# Altium integrated library Maxim Digital Potentiometers.IntLib: 1045 symbols (part 41 of 42)
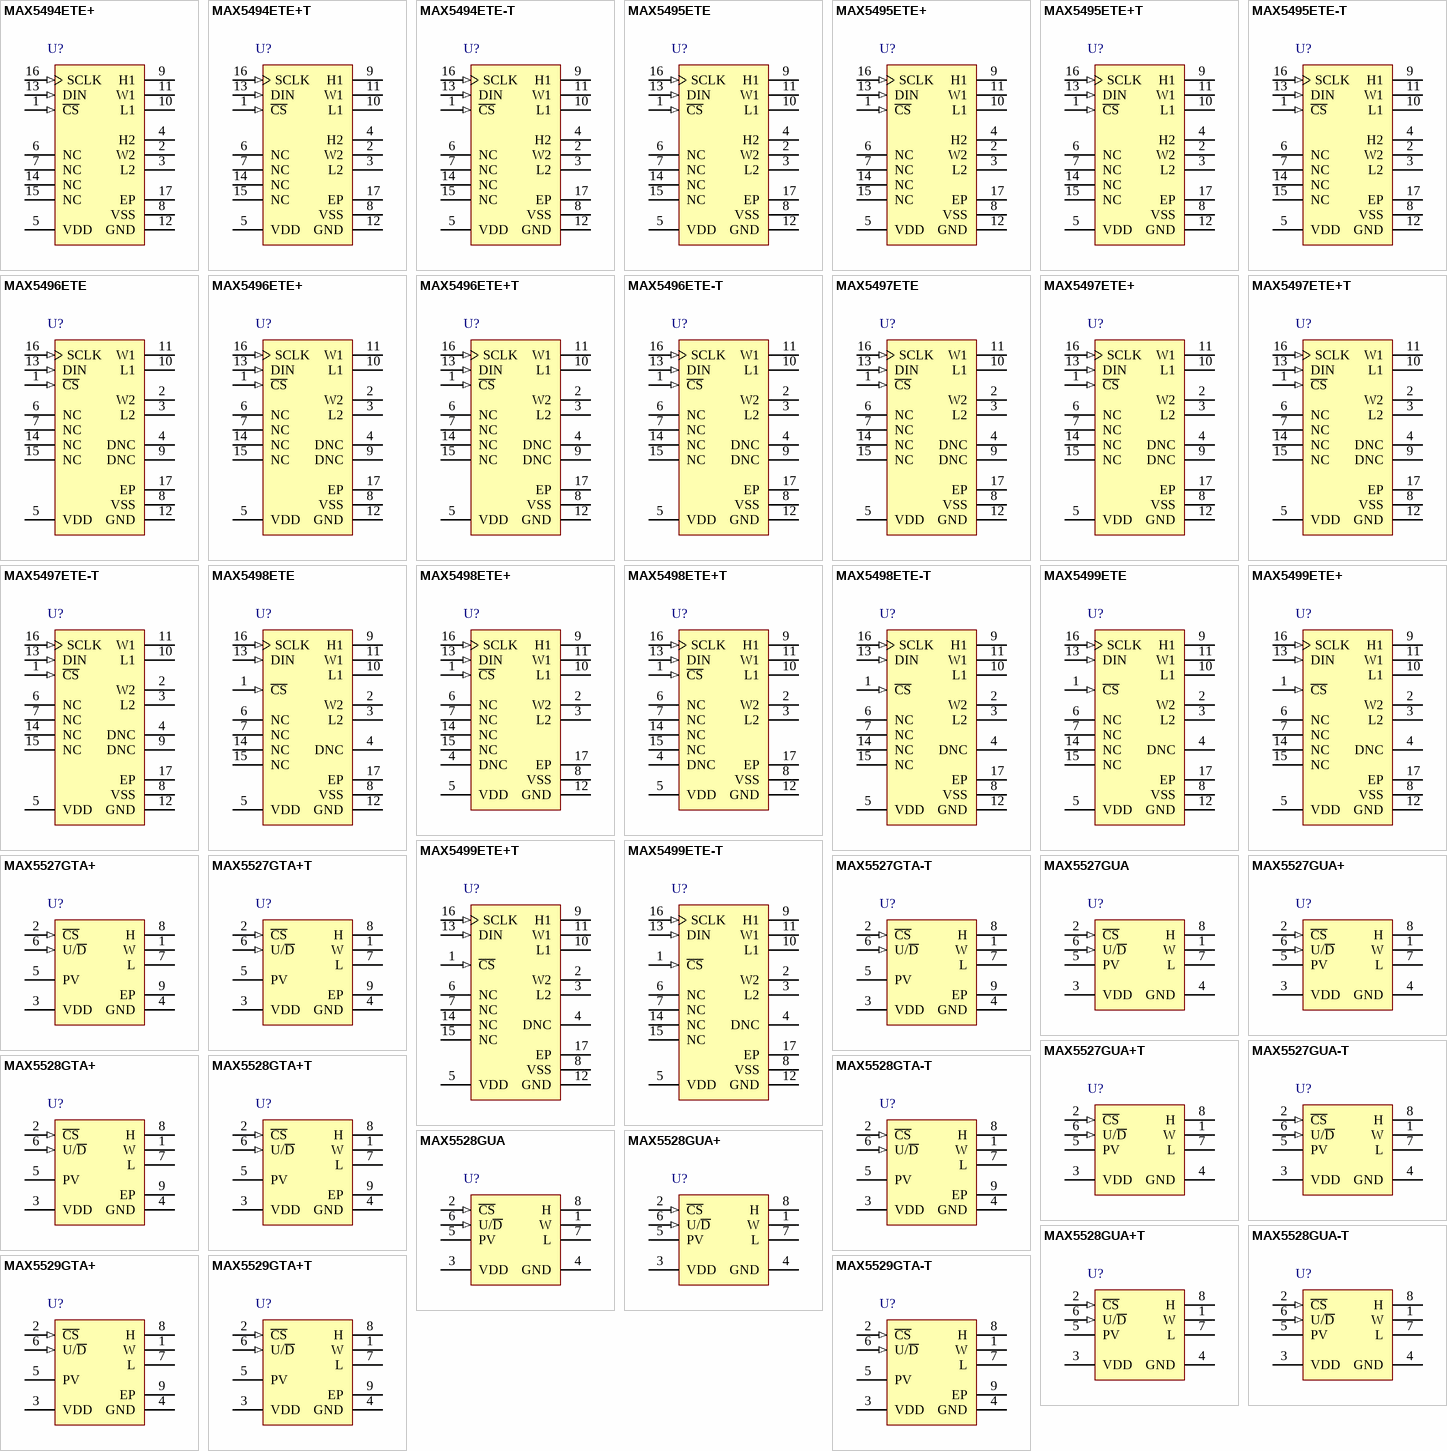
[diagram p69: symbols MAX5494ETE+ to MAX5529GTA-T]

## MAX5496ETE-T
designator U?
Dual 10k Digital Potentiometer (Voltage Divider) with 3-Wire Serial SPI Control Interface, Non-Volatile, Linear Taper, 1024 Steps, -40 to 85 degC, 16-pin TQFN (T1655+3), Tape and Reel; PartNumber: MAX5496ETE-T; DatasheetVersion: Rev. 2; PackageVersion: Rev. Q, 09/2011; PackageReference: T1655-3; PackageDescription: 16-Pin Thin Quad Flatpack, No Leads, Body 5 x 5 mm, Pitch 0.8 mm; Supplier 1: Mouser; Supplier Part Number 1: N/A; Applications: Fiber Communications, Power Supply Cal.; Control Interface: 3-Wire Serial SPI; Features: EEPROM Wiper Memory; Mounting Technology: Surface Mount; Code_JEDEC: MO220; ComponentLink1Description: Manufacturer URL; ComponentLink1URL: http://www.maximintegrated.com/; ComponentLink2Description: Datasheet; ComponentLink2URL: http://datasheets.maximintegrated.com/en/ds/MAX5494-MAX5499.pdf; ComponentLink3Description: Package Specification; ComponentLink3URL: http://pdfserv.maximintegrated.com/package_dwgs/21-0140.PDF
footprint MAXM-T1655-3_N (QFN, 16-Leads, Body 5x5mm, Pitch 0.8mm, Thermal Pad 3.1x3.1mm, IPC Medium Density)
footprint MAXM-T1655-3_L (QFN, 16-Leads, Body 5x5mm, Pitch 0.8mm, Thermal Pad 3.1x3.1mm, IPC High Density)
footprint MAXM-T1655-3_M (QFN, 16-Leads, Body 5x5mm, Pitch 0.8mm, Thermal Pad 3.1x3.1mm, IPC Low Density)
pins: 1 ~{CS} (in) "Active-Low Chip-Select Input. Drive C\S\ low to enable the serial interface. Drive C\S\ high to disable the serial interface and put the device in standby mode.", 2 W2 "Wiper Terminal 2", 3 L2 "Low Terminal 2", 4 DNC "Do Not Connect. Leave unconnected for proper operation.", 5 VDD (power) "Positive Power-Supply Input. 2.7V =< VDD =< 5.25V. Bypass with a 0.1uF capacitor from VDD to GND as close to the device as possible", 6 NC "No Connection. Not internally connected.", 7 NC "No Connection. Not internally connected.", 8 VSS (power) "Negative Power-Supply Input. Single-supply operation: VSS = GND = 0. Dual-supply operation: -2.5V =< VSS =< -0.2V (VSS can vary as long as (VDD - VSS) =< 5.25V). Bypass with a 0.1uF capacitor from VSS to GND as close to the (See Datasheet)", 9 DNC "Do Not Connect. Leave unconnected for proper operation.", 10 L1 "Low Terminal 1", 11 W1 "Wiper Terminal 1", 12 GND (power) "Ground", 13 DIN (in) "Serial-Data Input. The data at DIN synchronously loads into the serial shift register on each SCLK rising edge.", 14 NC "No Connection. Not internally connected.", 15 NC "No Connection. Not internally connected.", 16 SCLK (in) "Serial-Clock Input . SCLK clocks in the data when C\S\ is low.", 17 EP (power) "Exposed Pad. Externally connect EP to VSS to provide a low thermal resistance path from the IC junction to the PC board or leave unconnected."

## MAX5497ETE
designator U?
Dual 50k Digital Potentiometer (Voltage Divider) with 3-Wire Serial SPI Control Interface, Non-Volatile, Linear Taper, 1024 Steps, -40 to 85 degC, 16-pin TQFN (T1655+3); PartNumber: MAX5497ETE; DatasheetVersion: Rev. 2; PackageVersion: Rev. Q, 09/2011; PackageReference: T1655-3; PackageDescription: 16-Pin Thin Quad Flatpack, No Leads, Body 5 x 5 mm, Pitch 0.8 mm; Supplier 1: Mouser; Supplier Part Number 1: N/A; Applications: Fiber Communications, Power Supply Cal.; Control Interface: 3-Wire Serial SPI; Features: EEPROM Wiper Memory; Mounting Technology: Surface Mount; Code_JEDEC: MO220; ComponentLink1Description: Manufacturer URL; ComponentLink1URL: http://www.maximintegrated.com/; ComponentLink2Description: Datasheet; ComponentLink2URL: http://datasheets.maximintegrated.com/en/ds/MAX5494-MAX5499.pdf; ComponentLink3Description: Package Specification; ComponentLink3URL: http://pdfserv.maximintegrated.com/package_dwgs/21-0140.PDF
footprint MAXM-T1655-3_N (QFN, 16-Leads, Body 5x5mm, Pitch 0.8mm, Thermal Pad 3.1x3.1mm, IPC Medium Density)
footprint MAXM-T1655-3_L (QFN, 16-Leads, Body 5x5mm, Pitch 0.8mm, Thermal Pad 3.1x3.1mm, IPC High Density)
footprint MAXM-T1655-3_M (QFN, 16-Leads, Body 5x5mm, Pitch 0.8mm, Thermal Pad 3.1x3.1mm, IPC Low Density)
pins: 1 ~{CS} (in) "Active-Low Chip-Select Input. Drive C\S\ low to enable the serial interface. Drive C\S\ high to disable the serial interface and put the device in standby mode.", 2 W2 "Wiper Terminal 2", 3 L2 "Low Terminal 2", 4 DNC "Do Not Connect. Leave unconnected for proper operation.", 5 VDD (power) "Positive Power-Supply Input. 2.7V =< VDD =< 5.25V. Bypass with a 0.1uF capacitor from VDD to GND as close to the device as possible", 6 NC "No Connection. Not internally connected.", 7 NC "No Connection. Not internally connected.", 8 VSS (power) "Negative Power-Supply Input. Single-supply operation: VSS = GND = 0. Dual-supply operation: -2.5V =< VSS =< -0.2V (VSS can vary as long as (VDD - VSS) =< 5.25V). Bypass with a 0.1uF capacitor from VSS to GND as close to the (See Datasheet)", 9 DNC "Do Not Connect. Leave unconnected for proper operation.", 10 L1 "Low Terminal 1", 11 W1 "Wiper Terminal 1", 12 GND (power) "Ground", 13 DIN (in) "Serial-Data Input. The data at DIN synchronously loads into the serial shift register on each SCLK rising edge.", 14 NC "No Connection. Not internally connected.", 15 NC "No Connection. Not internally connected.", 16 SCLK (in) "Serial-Clock Input . SCLK clocks in the data when C\S\ is low.", 17 EP (power) "Exposed Pad. Externally connect EP to VSS to provide a low thermal resistance path from the IC junction to the PC board or leave unconnected."

## MAX5497ETE+
designator U?
Dual 50k Digital Potentiometer (Voltage Divider) with 3-Wire Serial SPI Control Interface, Non-Volatile, Linear Taper, 1024 Steps, -40 to 85 degC, 16-pin TQFN (T1655+3), Pb-Free; PartNumber: MAX5497ETE+; DatasheetVersion: Rev. 2; PackageVersion: Rev. Q, 09/2011; PackageReference: T1655+3; PackageDescription: 16-Pin Thin Quad Flatpack, No Leads, Body 5 x 5 mm, Pitch 0.8 mm; Supplier 1: Digi-Key; Supplier Part Number 1: MAX5497ETE+-ND; Supplier 2: Mouser; Supplier Part Number 2: 700-MAX5497ETE; Applications: Fiber Communications, Power Supply Cal.; Control Interface: 3-Wire Serial SPI; Features: EEPROM Wiper Memory; Mounting Technology: Surface Mount; Code_JEDEC: MO220; ComponentLink1Description: Manufacturer URL; ComponentLink1URL: http://www.maximintegrated.com/; ComponentLink2Description: Datasheet; ComponentLink2URL: http://datasheets.maximintegrated.com/en/ds/MAX5494-MAX5499.pdf; ComponentLink3Description: Package Specification; ComponentLink3URL: http://pdfserv.maximintegrated.com/package_dwgs/21-0140.PDF
footprint MAXM-T1655+3_N (QFN, 16-Leads, Body 5x5mm, Pitch 0.8mm, Thermal Pad 3.1x3.1mm, IPC Medium Density)
footprint MAXM-T1655+3_L (QFN, 16-Leads, Body 5x5mm, Pitch 0.8mm, Thermal Pad 3.1x3.1mm, IPC High Density)
footprint MAXM-T1655+3_M (QFN, 16-Leads, Body 5x5mm, Pitch 0.8mm, Thermal Pad 3.1x3.1mm, IPC Low Density)
pins: 1 ~{CS} (in) "Active-Low Chip-Select Input. Drive C\S\ low to enable the serial interface. Drive C\S\ high to disable the serial interface and put the device in standby mode.", 2 W2 "Wiper Terminal 2", 3 L2 "Low Terminal 2", 4 DNC "Do Not Connect. Leave unconnected for proper operation.", 5 VDD (power) "Positive Power-Supply Input. 2.7V =< VDD =< 5.25V. Bypass with a 0.1uF capacitor from VDD to GND as close to the device as possible", 6 NC "No Connection. Not internally connected.", 7 NC "No Connection. Not internally connected.", 8 VSS (power) "Negative Power-Supply Input. Single-supply operation: VSS = GND = 0. Dual-supply operation: -2.5V =< VSS =< -0.2V (VSS can vary as long as (VDD - VSS) =< 5.25V). Bypass with a 0.1uF capacitor from VSS to GND as close to the (See Datasheet)", 9 DNC "Do Not Connect. Leave unconnected for proper operation.", 10 L1 "Low Terminal 1", 11 W1 "Wiper Terminal 1", 12 GND (power) "Ground", 13 DIN (in) "Serial-Data Input. The data at DIN synchronously loads into the serial shift register on each SCLK rising edge.", 14 NC "No Connection. Not internally connected.", 15 NC "No Connection. Not internally connected.", 16 SCLK (in) "Serial-Clock Input . SCLK clocks in the data when C\S\ is low.", 17 EP (power) "Exposed Pad. Externally connect EP to VSS to provide a low thermal resistance path from the IC junction to the PC board or leave unconnected."

## MAX5497ETE+T
designator U?
Dual 50k Digital Potentiometer (Voltage Divider) with 3-Wire Serial SPI Control Interface, Non-Volatile, Linear Taper, 1024 Steps, -40 to 85 degC, 16-pin TQFN (T1655+3), Pb-Free, Tape and Reel; PartNumber: MAX5497ETE+T; DatasheetVersion: Rev. 2; PackageVersion: Rev. Q, 09/2011; PackageReference: T1655+3; PackageDescription: 16-Pin Thin Quad Flatpack, No Leads, Body 5 x 5 mm, Pitch 0.8 mm; Supplier 1: Digi-Key; Supplier Part Number 1: MAX5497ETE+T-ND; Supplier 2: Mouser; Supplier Part Number 2: 700-MAX5497ETET; Applications: Fiber Communications, Power Supply Cal.; Control Interface: 3-Wire Serial SPI; Features: EEPROM Wiper Memory; Mounting Technology: Surface Mount; Code_JEDEC: MO220; ComponentLink1Description: Manufacturer URL; ComponentLink1URL: http://www.maximintegrated.com/; ComponentLink2Description: Datasheet; ComponentLink2URL: http://datasheets.maximintegrated.com/en/ds/MAX5494-MAX5499.pdf; ComponentLink3Description: Package Specification; ComponentLink3URL: http://pdfserv.maximintegrated.com/package_dwgs/21-0140.PDF
footprint MAXM-T1655+3_N (QFN, 16-Leads, Body 5x5mm, Pitch 0.8mm, Thermal Pad 3.1x3.1mm, IPC Medium Density)
footprint MAXM-T1655+3_L (QFN, 16-Leads, Body 5x5mm, Pitch 0.8mm, Thermal Pad 3.1x3.1mm, IPC High Density)
footprint MAXM-T1655+3_M (QFN, 16-Leads, Body 5x5mm, Pitch 0.8mm, Thermal Pad 3.1x3.1mm, IPC Low Density)
pins: 1 ~{CS} (in) "Active-Low Chip-Select Input. Drive C\S\ low to enable the serial interface. Drive C\S\ high to disable the serial interface and put the device in standby mode.", 2 W2 "Wiper Terminal 2", 3 L2 "Low Terminal 2", 4 DNC "Do Not Connect. Leave unconnected for proper operation.", 5 VDD (power) "Positive Power-Supply Input. 2.7V =< VDD =< 5.25V. Bypass with a 0.1uF capacitor from VDD to GND as close to the device as possible", 6 NC "No Connection. Not internally connected.", 7 NC "No Connection. Not internally connected.", 8 VSS (power) "Negative Power-Supply Input. Single-supply operation: VSS = GND = 0. Dual-supply operation: -2.5V =< VSS =< -0.2V (VSS can vary as long as (VDD - VSS) =< 5.25V). Bypass with a 0.1uF capacitor from VSS to GND as close to the (See Datasheet)", 9 DNC "Do Not Connect. Leave unconnected for proper operation.", 10 L1 "Low Terminal 1", 11 W1 "Wiper Terminal 1", 12 GND (power) "Ground", 13 DIN (in) "Serial-Data Input. The data at DIN synchronously loads into the serial shift register on each SCLK rising edge.", 14 NC "No Connection. Not internally connected.", 15 NC "No Connection. Not internally connected.", 16 SCLK (in) "Serial-Clock Input . SCLK clocks in the data when C\S\ is low.", 17 EP (power) "Exposed Pad. Externally connect EP to VSS to provide a low thermal resistance path from the IC junction to the PC board or leave unconnected."

## MAX5497ETE-T
designator U?
Dual 50k Digital Potentiometer (Voltage Divider) with 3-Wire Serial SPI Control Interface, Non-Volatile, Linear Taper, 1024 Steps, -40 to 85 degC, 16-pin TQFN (T1655+3), Tape and Reel; PartNumber: MAX5497ETE-T; DatasheetVersion: Rev. 2; PackageVersion: Rev. Q, 09/2011; PackageReference: T1655-3; PackageDescription: 16-Pin Thin Quad Flatpack, No Leads, Body 5 x 5 mm, Pitch 0.8 mm; Supplier 1: Mouser; Supplier Part Number 1: N/A; Applications: Fiber Communications, Power Supply Cal.; Control Interface: 3-Wire Serial SPI; Features: EEPROM Wiper Memory; Mounting Technology: Surface Mount; Code_JEDEC: MO220; ComponentLink1Description: Manufacturer URL; ComponentLink1URL: http://www.maximintegrated.com/; ComponentLink2Description: Datasheet; ComponentLink2URL: http://datasheets.maximintegrated.com/en/ds/MAX5494-MAX5499.pdf; ComponentLink3Description: Package Specification; ComponentLink3URL: http://pdfserv.maximintegrated.com/package_dwgs/21-0140.PDF
footprint MAXM-T1655-3_N (QFN, 16-Leads, Body 5x5mm, Pitch 0.8mm, Thermal Pad 3.1x3.1mm, IPC Medium Density)
footprint MAXM-T1655-3_L (QFN, 16-Leads, Body 5x5mm, Pitch 0.8mm, Thermal Pad 3.1x3.1mm, IPC High Density)
footprint MAXM-T1655-3_M (QFN, 16-Leads, Body 5x5mm, Pitch 0.8mm, Thermal Pad 3.1x3.1mm, IPC Low Density)
pins: 1 ~{CS} (in) "Active-Low Chip-Select Input. Drive C\S\ low to enable the serial interface. Drive C\S\ high to disable the serial interface and put the device in standby mode.", 2 W2 "Wiper Terminal 2", 3 L2 "Low Terminal 2", 4 DNC "Do Not Connect. Leave unconnected for proper operation.", 5 VDD (power) "Positive Power-Supply Input. 2.7V =< VDD =< 5.25V. Bypass with a 0.1uF capacitor from VDD to GND as close to the device as possible", 6 NC "No Connection. Not internally connected.", 7 NC "No Connection. Not internally connected.", 8 VSS (power) "Negative Power-Supply Input. Single-supply operation: VSS = GND = 0. Dual-supply operation: -2.5V =< VSS =< -0.2V (VSS can vary as long as (VDD - VSS) =< 5.25V). Bypass with a 0.1uF capacitor from VSS to GND as close to the (See Datasheet)", 9 DNC "Do Not Connect. Leave unconnected for proper operation.", 10 L1 "Low Terminal 1", 11 W1 "Wiper Terminal 1", 12 GND (power) "Ground", 13 DIN (in) "Serial-Data Input. The data at DIN synchronously loads into the serial shift register on each SCLK rising edge.", 14 NC "No Connection. Not internally connected.", 15 NC "No Connection. Not internally connected.", 16 SCLK (in) "Serial-Clock Input . SCLK clocks in the data when C\S\ is low.", 17 EP (power) "Exposed Pad. Externally connect EP to VSS to provide a low thermal resistance path from the IC junction to the PC board or leave unconnected."

## MAX5498ETE
designator U?
Dual 10k Digital Potentiometer (Voltage Divider) with 3-Wire Serial SPI Control Interface, Non-Volatile, Linear Taper, 1024 Steps, -40 to 85 degC, 16-pin TQFN (T1655+3); PartNumber: MAX5498ETE; DatasheetVersion: Rev. 2; PackageVersion: Rev. Q, 09/2011; PackageReference: T1655-3; PackageDescription: 16-Pin Thin Quad Flatpack, No Leads, Body 5 x 5 mm, Pitch 0.8 mm; Supplier 1: Mouser; Supplier Part Number 1: N/A; Applications: Fiber Communications, Power Supply Cal.; Control Interface: 3-Wire Serial SPI; Features: EEPROM Wiper Memory; Mounting Technology: Surface Mount; Code_JEDEC: MO220; ComponentLink1Description: Manufacturer URL; ComponentLink1URL: http://www.maximintegrated.com/; ComponentLink2Description: Datasheet; ComponentLink2URL: http://datasheets.maximintegrated.com/en/ds/MAX5494-MAX5499.pdf; ComponentLink3Description: Package Specification; ComponentLink3URL: http://pdfserv.maximintegrated.com/package_dwgs/21-0140.PDF
footprint MAXM-T1655-3_N (QFN, 16-Leads, Body 5x5mm, Pitch 0.8mm, Thermal Pad 3.1x3.1mm, IPC Medium Density)
footprint MAXM-T1655-3_L (QFN, 16-Leads, Body 5x5mm, Pitch 0.8mm, Thermal Pad 3.1x3.1mm, IPC High Density)
footprint MAXM-T1655-3_M (QFN, 16-Leads, Body 5x5mm, Pitch 0.8mm, Thermal Pad 3.1x3.1mm, IPC Low Density)
pins: 1 ~{CS} (in) "Active-Low Chip-Select Input. Drive C\S\ low to enable the serial interface. Drive C\S\ high to disable the serial interface and put the device in standby mode.", 2 W2 "Wiper Terminal 2", 3 L2 "Low Terminal 2", 4 DNC "Do Not Connect. Leave unconnected for proper operation.", 5 VDD (power) "Positive Power-Supply Input. 2.7V =< VDD =< 5.25V. Bypass with a 0.1uF capacitor from VDD to GND as close to the device as possible", 6 NC "No Connection. Not internally connected.", 7 NC "No Connection. Not internally connected.", 8 VSS (power) "Negative Power-Supply Input. Single-supply operation: VSS = GND = 0. Dual-supply operation: -2.5V =< VSS =< -0.2V (VSS can vary as long as (VDD - VSS) =< 5.25V). Bypass with a 0.1uF capacitor from VSS to GND as close to the (See Datasheet)", 9 H1 "High Terminal 1", 10 L1 "Low Terminal 1", 11 W1 "Wiper Terminal 1", 12 GND (power) "Ground", 13 DIN (in) "Serial-Data Input. The data at DIN synchronously loads into the serial shift register on each SCLK rising edge.", 14 NC "No Connection. Not internally connected.", 15 NC "No Connection. Not internally connected.", 16 SCLK (in) "Serial-Clock Input . SCLK clocks in the data when C\S\ is low.", 17 EP (power) "Exposed Pad. Externally connect EP to VSS to provide a low thermal resistance path from the IC junction to the PC board or leave unconnected."

## MAX5498ETE+
designator U?
Dual 10k Digital Potentiometer (Voltage Divider) with 3-Wire Serial SPI Control Interface, Non-Volatile, Linear Taper, 1024 Steps, -40 to 85 degC, 16-pin TQFN (T1655+3), Pb-Free; PartNumber: MAX5498ETE+; DatasheetVersion: Rev. 2; PackageVersion: Rev. Q, 09/2011; PackageReference: T1655+3; PackageDescription: 16-Pin Thin Quad Flatpack, No Leads, Body 5 x 5 mm, Pitch 0.8 mm; Supplier 1: Digi-Key; Supplier Part Number 1: MAX5498ETE+-ND; Supplier 2: Mouser; Supplier Part Number 2: 700-MAX5498ETE; Applications: Fiber Communications, Power Supply Cal.; Control Interface: 3-Wire Serial SPI; Features: EEPROM Wiper Memory; Mounting Technology: Surface Mount; Code_JEDEC: MO220; ComponentLink1Description: Manufacturer URL; ComponentLink1URL: http://www.maximintegrated.com/; ComponentLink2Description: Datasheet; ComponentLink2URL: http://datasheets.maximintegrated.com/en/ds/MAX5494-MAX5499.pdf; ComponentLink3Description: Package Specification; ComponentLink3URL: http://pdfserv.maximintegrated.com/package_dwgs/21-0140.PDF
footprint MAXM-T1655+3_N (QFN, 16-Leads, Body 5x5mm, Pitch 0.8mm, Thermal Pad 3.1x3.1mm, IPC Medium Density)
footprint MAXM-T1655+3_L (QFN, 16-Leads, Body 5x5mm, Pitch 0.8mm, Thermal Pad 3.1x3.1mm, IPC High Density)
footprint MAXM-T1655+3_M (QFN, 16-Leads, Body 5x5mm, Pitch 0.8mm, Thermal Pad 3.1x3.1mm, IPC Low Density)
pins: 1 ~{CS} (in) "Active-Low Chip-Select Input. Drive C\S\ low to enable the serial interface. Drive C\S\ high to disable the serial interface and put the device in standby mode.", 2 W2 "Wiper Terminal 2", 3 L2 "Low Terminal 2", 4 DNC "Do Not Connect. Leave unconnected for proper operation.", 5 VDD (power) "Positive Power-Supply Input. 2.7V =< VDD =< 5.25V. Bypass with a 0.1uF capacitor from VDD to GND as close to the device as possible", 6 NC "No Connection. Not internally connected.", 7 NC "No Connection. Not internally connected.", 8 VSS (power) "Negative Power-Supply Input. Single-supply operation: VSS = GND = 0. Dual-supply operation: -2.5V =< VSS =< -0.2V (VSS can vary as long as (VDD - VSS) =< 5.25V). Bypass with a 0.1uF capacitor from VSS to GND as close to the (See Datasheet)", 9 H1 "High Terminal 1", 10 L1 "Low Terminal 1", 11 W1 "Wiper Terminal 1", 12 GND (power) "Ground", 13 DIN (in) "Serial-Data Input. The data at DIN synchronously loads into the serial shift register on each SCLK rising edge.", 14 NC "No Connection. Not internally connected.", 15 NC "No Connection. Not internally connected.", 16 SCLK (in) "Serial-Clock Input . SCLK clocks in the data when C\S\ is low.", 17 EP (power) "Exposed Pad. Externally connect EP to VSS to provide a low thermal resistance path from the IC junction to the PC board or leave unconnected."

## MAX5498ETE+T
designator U?
Dual 10k Digital Potentiometer (Voltage Divider) with 3-Wire Serial SPI Control Interface, Non-Volatile, Linear Taper, 1024 Steps, -40 to 85 degC, 16-pin TQFN (T1655+3), Pb-Free, Tape and Reel; PartNumber: MAX5498ETE+T; DatasheetVersion: Rev. 2; PackageVersion: Rev. Q, 09/2011; PackageReference: T1655+3; PackageDescription: 16-Pin Thin Quad Flatpack, No Leads, Body 5 x 5 mm, Pitch 0.8 mm; Supplier 1: Digi-Key; Supplier Part Number 1: MAX5498ETE+T-ND; Supplier 2: Mouser; Supplier Part Number 2: 700-MAX5498ETET; Applications: Fiber Communications, Power Supply Cal.; Control Interface: 3-Wire Serial SPI; Features: EEPROM Wiper Memory; Mounting Technology: Surface Mount; Code_JEDEC: MO220; ComponentLink1Description: Manufacturer URL; ComponentLink1URL: http://www.maximintegrated.com/; ComponentLink2Description: Datasheet; ComponentLink2URL: http://datasheets.maximintegrated.com/en/ds/MAX5494-MAX5499.pdf; ComponentLink3Description: Package Specification; ComponentLink3URL: http://pdfserv.maximintegrated.com/package_dwgs/21-0140.PDF
footprint MAXM-T1655+3_N (QFN, 16-Leads, Body 5x5mm, Pitch 0.8mm, Thermal Pad 3.1x3.1mm, IPC Medium Density)
footprint MAXM-T1655+3_L (QFN, 16-Leads, Body 5x5mm, Pitch 0.8mm, Thermal Pad 3.1x3.1mm, IPC High Density)
footprint MAXM-T1655+3_M (QFN, 16-Leads, Body 5x5mm, Pitch 0.8mm, Thermal Pad 3.1x3.1mm, IPC Low Density)
pins: 1 ~{CS} (in) "Active-Low Chip-Select Input. Drive C\S\ low to enable the serial interface. Drive C\S\ high to disable the serial interface and put the device in standby mode.", 2 W2 "Wiper Terminal 2", 3 L2 "Low Terminal 2", 4 DNC "Do Not Connect. Leave unconnected for proper operation.", 5 VDD (power) "Positive Power-Supply Input. 2.7V =< VDD =< 5.25V. Bypass with a 0.1uF capacitor from VDD to GND as close to the device as possible", 6 NC "No Connection. Not internally connected.", 7 NC "No Connection. Not internally connected.", 8 VSS (power) "Negative Power-Supply Input. Single-supply operation: VSS = GND = 0. Dual-supply operation: -2.5V =< VSS =< -0.2V (VSS can vary as long as (VDD - VSS) =< 5.25V). Bypass with a 0.1uF capacitor from VSS to GND as close to the (See Datasheet)", 9 H1 "High Terminal 1", 10 L1 "Low Terminal 1", 11 W1 "Wiper Terminal 1", 12 GND (power) "Ground", 13 DIN (in) "Serial-Data Input. The data at DIN synchronously loads into the serial shift register on each SCLK rising edge.", 14 NC "No Connection. Not internally connected.", 15 NC "No Connection. Not internally connected.", 16 SCLK (in) "Serial-Clock Input . SCLK clocks in the data when C\S\ is low.", 17 EP (power) "Exposed Pad. Externally connect EP to VSS to provide a low thermal resistance path from the IC junction to the PC board or leave unconnected."

## MAX5498ETE-T
designator U?
Dual 10k Digital Potentiometer (Voltage Divider) with 3-Wire Serial SPI Control Interface, Non-Volatile, Linear Taper, 1024 Steps, -40 to 85 degC, 16-pin TQFN (T1655+3), Tape and Reel; PartNumber: MAX5498ETE-T; DatasheetVersion: Rev. 2; PackageVersion: Rev. Q, 09/2011; PackageReference: T1655-3; PackageDescription: 16-Pin Thin Quad Flatpack, No Leads, Body 5 x 5 mm, Pitch 0.8 mm; Supplier 1: Mouser; Supplier Part Number 1: N/A; Applications: Fiber Communications, Power Supply Cal.; Control Interface: 3-Wire Serial SPI; Features: EEPROM Wiper Memory; Mounting Technology: Surface Mount; Code_JEDEC: MO220; ComponentLink1Description: Manufacturer URL; ComponentLink1URL: http://www.maximintegrated.com/; ComponentLink2Description: Datasheet; ComponentLink2URL: http://datasheets.maximintegrated.com/en/ds/MAX5494-MAX5499.pdf; ComponentLink3Description: Package Specification; ComponentLink3URL: http://pdfserv.maximintegrated.com/package_dwgs/21-0140.PDF
footprint MAXM-T1655-3_N (QFN, 16-Leads, Body 5x5mm, Pitch 0.8mm, Thermal Pad 3.1x3.1mm, IPC Medium Density)
footprint MAXM-T1655-3_L (QFN, 16-Leads, Body 5x5mm, Pitch 0.8mm, Thermal Pad 3.1x3.1mm, IPC High Density)
footprint MAXM-T1655-3_M (QFN, 16-Leads, Body 5x5mm, Pitch 0.8mm, Thermal Pad 3.1x3.1mm, IPC Low Density)
pins: 1 ~{CS} (in) "Active-Low Chip-Select Input. Drive C\S\ low to enable the serial interface. Drive C\S\ high to disable the serial interface and put the device in standby mode.", 2 W2 "Wiper Terminal 2", 3 L2 "Low Terminal 2", 4 DNC "Do Not Connect. Leave unconnected for proper operation.", 5 VDD (power) "Positive Power-Supply Input. 2.7V =< VDD =< 5.25V. Bypass with a 0.1uF capacitor from VDD to GND as close to the device as possible", 6 NC "No Connection. Not internally connected.", 7 NC "No Connection. Not internally connected.", 8 VSS (power) "Negative Power-Supply Input. Single-supply operation: VSS = GND = 0. Dual-supply operation: -2.5V =< VSS =< -0.2V (VSS can vary as long as (VDD - VSS) =< 5.25V). Bypass with a 0.1uF capacitor from VSS to GND as close to the (See Datasheet)", 9 H1 "High Terminal 1", 10 L1 "Low Terminal 1", 11 W1 "Wiper Terminal 1", 12 GND (power) "Ground", 13 DIN (in) "Serial-Data Input. The data at DIN synchronously loads into the serial shift register on each SCLK rising edge.", 14 NC "No Connection. Not internally connected.", 15 NC "No Connection. Not internally connected.", 16 SCLK (in) "Serial-Clock Input . SCLK clocks in the data when C\S\ is low.", 17 EP (power) "Exposed Pad. Externally connect EP to VSS to provide a low thermal resistance path from the IC junction to the PC board or leave unconnected."

## MAX5499ETE
designator U?
Dual 50k Digital Potentiometer (Voltage Divider) with 3-Wire Serial SPI Control Interface, Non-Volatile, Linear Taper, 1024 Steps, -40 to 85 degC, 16-pin TQFN (T1655+3); PartNumber: MAX5499ETE; DatasheetVersion: Rev. 2; PackageVersion: Rev. Q, 09/2011; PackageReference: T1655-3; PackageDescription: 16-Pin Thin Quad Flatpack, No Leads, Body 5 x 5 mm, Pitch 0.8 mm; Supplier 1: Mouser; Supplier Part Number 1: N/A; Applications: Fiber Communications, Power Supply Cal.; Control Interface: 3-Wire Serial SPI; Features: EEPROM Wiper Memory; Mounting Technology: Surface Mount; Code_JEDEC: MO220; ComponentLink1Description: Manufacturer URL; ComponentLink1URL: http://www.maximintegrated.com/; ComponentLink2Description: Datasheet; ComponentLink2URL: http://datasheets.maximintegrated.com/en/ds/MAX5494-MAX5499.pdf; ComponentLink3Description: Package Specification; ComponentLink3URL: http://pdfserv.maximintegrated.com/package_dwgs/21-0140.PDF
footprint MAXM-T1655-3_N (QFN, 16-Leads, Body 5x5mm, Pitch 0.8mm, Thermal Pad 3.1x3.1mm, IPC Medium Density)
footprint MAXM-T1655-3_L (QFN, 16-Leads, Body 5x5mm, Pitch 0.8mm, Thermal Pad 3.1x3.1mm, IPC High Density)
footprint MAXM-T1655-3_M (QFN, 16-Leads, Body 5x5mm, Pitch 0.8mm, Thermal Pad 3.1x3.1mm, IPC Low Density)
pins: 1 ~{CS} (in) "Active-Low Chip-Select Input. Drive C\S\ low to enable the serial interface. Drive C\S\ high to disable the serial interface and put the device in standby mode.", 2 W2 "Wiper Terminal 2", 3 L2 "Low Terminal 2", 4 DNC "Do Not Connect. Leave unconnected for proper operation.", 5 VDD (power) "Positive Power-Supply Input. 2.7V =< VDD =< 5.25V. Bypass with a 0.1uF capacitor from VDD to GND as close to the device as possible", 6 NC "No Connection. Not internally connected.", 7 NC "No Connection. Not internally connected.", 8 VSS (power) "Negative Power-Supply Input. Single-supply operation: VSS = GND = 0. Dual-supply operation: -2.5V =< VSS =< -0.2V (VSS can vary as long as (VDD - VSS) =< 5.25V). Bypass with a 0.1uF capacitor from VSS to GND as close to the (See Datasheet)", 9 H1 "High Terminal 1", 10 L1 "Low Terminal 1", 11 W1 "Wiper Terminal 1", 12 GND (power) "Ground", 13 DIN (in) "Serial-Data Input. The data at DIN synchronously loads into the serial shift register on each SCLK rising edge.", 14 NC "No Connection. Not internally connected.", 15 NC "No Connection. Not internally connected.", 16 SCLK (in) "Serial-Clock Input . SCLK clocks in the data when C\S\ is low.", 17 EP (power) "Exposed Pad. Externally connect EP to VSS to provide a low thermal resistance path from the IC junction to the PC board or leave unconnected."

## MAX5499ETE+
designator U?
Dual 50k Digital Potentiometer (Voltage Divider) with 3-Wire Serial SPI Control Interface, Non-Volatile, Linear Taper, 1024 Steps, -40 to 85 degC, 16-pin TQFN (T1655+3), Pb-Free; PartNumber: MAX5499ETE+; DatasheetVersion: Rev. 2; PackageVersion: Rev. Q, 09/2011; PackageReference: T1655+3; PackageDescription: 16-Pin Thin Quad Flatpack, No Leads, Body 5 x 5 mm, Pitch 0.8 mm; Supplier 1: Digi-Key; Supplier Part Number 1: MAX5499ETE+-ND; Supplier 2: Mouser; Supplier Part Number 2: 700-MAX5499ETE; Applications: Fiber Communications, Power Supply Cal.; Control Interface: 3-Wire Serial SPI; Features: EEPROM Wiper Memory; Mounting Technology: Surface Mount; Code_JEDEC: MO220; ComponentLink1Description: Manufacturer URL; ComponentLink1URL: http://www.maximintegrated.com/; ComponentLink2Description: Datasheet; ComponentLink2URL: http://datasheets.maximintegrated.com/en/ds/MAX5494-MAX5499.pdf; ComponentLink3Description: Package Specification; ComponentLink3URL: http://pdfserv.maximintegrated.com/package_dwgs/21-0140.PDF
footprint MAXM-T1655+3_N (QFN, 16-Leads, Body 5x5mm, Pitch 0.8mm, Thermal Pad 3.1x3.1mm, IPC Medium Density)
footprint MAXM-T1655+3_L (QFN, 16-Leads, Body 5x5mm, Pitch 0.8mm, Thermal Pad 3.1x3.1mm, IPC High Density)
footprint MAXM-T1655+3_M (QFN, 16-Leads, Body 5x5mm, Pitch 0.8mm, Thermal Pad 3.1x3.1mm, IPC Low Density)
pins: 1 ~{CS} (in) "Active-Low Chip-Select Input. Drive C\S\ low to enable the serial interface. Drive C\S\ high to disable the serial interface and put the device in standby mode.", 2 W2 "Wiper Terminal 2", 3 L2 "Low Terminal 2", 4 DNC "Do Not Connect. Leave unconnected for proper operation.", 5 VDD (power) "Positive Power-Supply Input. 2.7V =< VDD =< 5.25V. Bypass with a 0.1uF capacitor from VDD to GND as close to the device as possible", 6 NC "No Connection. Not internally connected.", 7 NC "No Connection. Not internally connected.", 8 VSS (power) "Negative Power-Supply Input. Single-supply operation: VSS = GND = 0. Dual-supply operation: -2.5V =< VSS =< -0.2V (VSS can vary as long as (VDD - VSS) =< 5.25V). Bypass with a 0.1uF capacitor from VSS to GND as close to the (See Datasheet)", 9 H1 "High Terminal 1", 10 L1 "Low Terminal 1", 11 W1 "Wiper Terminal 1", 12 GND (power) "Ground", 13 DIN (in) "Serial-Data Input. The data at DIN synchronously loads into the serial shift register on each SCLK rising edge.", 14 NC "No Connection. Not internally connected.", 15 NC "No Connection. Not internally connected.", 16 SCLK (in) "Serial-Clock Input . SCLK clocks in the data when C\S\ is low.", 17 EP (power) "Exposed Pad. Externally connect EP to VSS to provide a low thermal resistance path from the IC junction to the PC board or leave unconnected."

## MAX5499ETE+T
designator U?
Dual 50k Digital Potentiometer (Voltage Divider) with 3-Wire Serial SPI Control Interface, Non-Volatile, Linear Taper, 1024 Steps, -40 to 85 degC, 16-pin TQFN (T1655+3), Pb-Free, Tape and Reel; PartNumber: MAX5499ETE+T; DatasheetVersion: Rev. 2; PackageVersion: Rev. Q, 09/2011; PackageReference: T1655+3; PackageDescription: 16-Pin Thin Quad Flatpack, No Leads, Body 5 x 5 mm, Pitch 0.8 mm; Supplier 1: Digi-Key; Supplier Part Number 1: MAX5499ETE+T-ND; Supplier 2: Mouser; Supplier Part Number 2: 700-MAX5499ETET; Applications: Fiber Communications, Power Supply Cal.; Control Interface: 3-Wire Serial SPI; Features: EEPROM Wiper Memory; Mounting Technology: Surface Mount; Code_JEDEC: MO220; ComponentLink1Description: Manufacturer URL; ComponentLink1URL: http://www.maximintegrated.com/; ComponentLink2Description: Datasheet; ComponentLink2URL: http://datasheets.maximintegrated.com/en/ds/MAX5494-MAX5499.pdf; ComponentLink3Description: Package Specification; ComponentLink3URL: http://pdfserv.maximintegrated.com/package_dwgs/21-0140.PDF
footprint MAXM-T1655+3_N (QFN, 16-Leads, Body 5x5mm, Pitch 0.8mm, Thermal Pad 3.1x3.1mm, IPC Medium Density)
footprint MAXM-T1655+3_L (QFN, 16-Leads, Body 5x5mm, Pitch 0.8mm, Thermal Pad 3.1x3.1mm, IPC High Density)
footprint MAXM-T1655+3_M (QFN, 16-Leads, Body 5x5mm, Pitch 0.8mm, Thermal Pad 3.1x3.1mm, IPC Low Density)
pins: 1 ~{CS} (in) "Active-Low Chip-Select Input. Drive C\S\ low to enable the serial interface. Drive C\S\ high to disable the serial interface and put the device in standby mode.", 2 W2 "Wiper Terminal 2", 3 L2 "Low Terminal 2", 4 DNC "Do Not Connect. Leave unconnected for proper operation.", 5 VDD (power) "Positive Power-Supply Input. 2.7V =< VDD =< 5.25V. Bypass with a 0.1uF capacitor from VDD to GND as close to the device as possible", 6 NC "No Connection. Not internally connected.", 7 NC "No Connection. Not internally connected.", 8 VSS (power) "Negative Power-Supply Input. Single-supply operation: VSS = GND = 0. Dual-supply operation: -2.5V =< VSS =< -0.2V (VSS can vary as long as (VDD - VSS) =< 5.25V). Bypass with a 0.1uF capacitor from VSS to GND as close to the (See Datasheet)", 9 H1 "High Terminal 1", 10 L1 "Low Terminal 1", 11 W1 "Wiper Terminal 1", 12 GND (power) "Ground", 13 DIN (in) "Serial-Data Input. The data at DIN synchronously loads into the serial shift register on each SCLK rising edge.", 14 NC "No Connection. Not internally connected.", 15 NC "No Connection. Not internally connected.", 16 SCLK (in) "Serial-Clock Input . SCLK clocks in the data when C\S\ is low.", 17 EP (power) "Exposed Pad. Externally connect EP to VSS to provide a low thermal resistance path from the IC junction to the PC board or leave unconnected."

## MAX5499ETE-T
designator U?
Dual 50k Digital Potentiometer (Voltage Divider) with 3-Wire Serial SPI Control Interface, Non-Volatile, Linear Taper, 1024 Steps, -40 to 85 degC, 16-pin TQFN (T1655+3), Tape and Reel; PartNumber: MAX5499ETE-T; DatasheetVersion: Rev. 2; PackageVersion: Rev. Q, 09/2011; PackageReference: T1655-3; PackageDescription: 16-Pin Thin Quad Flatpack, No Leads, Body 5 x 5 mm, Pitch 0.8 mm; Supplier 1: Mouser; Supplier Part Number 1: N/A; Applications: Fiber Communications, Power Supply Cal.; Control Interface: 3-Wire Serial SPI; Features: EEPROM Wiper Memory; Mounting Technology: Surface Mount; Code_JEDEC: MO220; ComponentLink1Description: Manufacturer URL; ComponentLink1URL: http://www.maximintegrated.com/; ComponentLink2Description: Datasheet; ComponentLink2URL: http://datasheets.maximintegrated.com/en/ds/MAX5494-MAX5499.pdf; ComponentLink3Description: Package Specification; ComponentLink3URL: http://pdfserv.maximintegrated.com/package_dwgs/21-0140.PDF
footprint MAXM-T1655-3_N (QFN, 16-Leads, Body 5x5mm, Pitch 0.8mm, Thermal Pad 3.1x3.1mm, IPC Medium Density)
footprint MAXM-T1655-3_L (QFN, 16-Leads, Body 5x5mm, Pitch 0.8mm, Thermal Pad 3.1x3.1mm, IPC High Density)
footprint MAXM-T1655-3_M (QFN, 16-Leads, Body 5x5mm, Pitch 0.8mm, Thermal Pad 3.1x3.1mm, IPC Low Density)
pins: 1 ~{CS} (in) "Active-Low Chip-Select Input. Drive C\S\ low to enable the serial interface. Drive C\S\ high to disable the serial interface and put the device in standby mode.", 2 W2 "Wiper Terminal 2", 3 L2 "Low Terminal 2", 4 DNC "Do Not Connect. Leave unconnected for proper operation.", 5 VDD (power) "Positive Power-Supply Input. 2.7V =< VDD =< 5.25V. Bypass with a 0.1uF capacitor from VDD to GND as close to the device as possible", 6 NC "No Connection. Not internally connected.", 7 NC "No Connection. Not internally connected.", 8 VSS (power) "Negative Power-Supply Input. Single-supply operation: VSS = GND = 0. Dual-supply operation: -2.5V =< VSS =< -0.2V (VSS can vary as long as (VDD - VSS) =< 5.25V). Bypass with a 0.1uF capacitor from VSS to GND as close to the (See Datasheet)", 9 H1 "High Terminal 1", 10 L1 "Low Terminal 1", 11 W1 "Wiper Terminal 1", 12 GND (power) "Ground", 13 DIN (in) "Serial-Data Input. The data at DIN synchronously loads into the serial shift register on each SCLK rising edge.", 14 NC "No Connection. Not internally connected.", 15 NC "No Connection. Not internally connected.", 16 SCLK (in) "Serial-Clock Input . SCLK clocks in the data when C\S\ is low.", 17 EP (power) "Exposed Pad. Externally connect EP to VSS to provide a low thermal resistance path from the IC junction to the PC board or leave unconnected."

## MAX5527GTA+
designator U?
100k Digital Potentiometer with Up/Down Control Interface, Non-Volatile OTP, Linear Taper, 64 Steps, -40 to 105 degC, 8-pin TDFN-EP (T833+2), Pb-Free; PartNumber: MAX5527GTA+; DatasheetVersion: Rev. 1; PackageVersion: Rev. J, 08/2009; PackageReference: T833+2; PackageDescription: 8-Pin Plastic Very Very Thin Dual Flatpack No Leads, Exposed Pad (T833+2); Supplier 1: Mouser; Supplier Part Number 1: N/A; Control Interface: Up/Down; Features: One Time Programmable; Mounting Technology: Surface Mount; Code_JEDEC: MO229; ComponentLink1Description: Manufacturer URL; ComponentLink1URL: http://www.maximintegrated.com/; ComponentLink2Description: Datasheet; ComponentLink2URL: http://datasheets.maximintegrated.com/en/ds/MAX5527-MAX5529.pdf; ComponentLink3Description: Package Specification; ComponentLink3URL: http://pdfserv.maximintegrated.com/package_dwgs/21-0137.PDF
footprint MAXM-T833+2_V (SON, 8-Leads, Body 3x3 mm, Pitch 0.65mm, Thermal Pad 2.3x1.5mm)
pins: 1 W "Wiper Connection", 2 ~{CS} (in) "Chip-Select Input. A high-to-low C\S\ transition determines the increment/decrement mode. Increment if U/D\ is high, or decrement if U/D\ is low. C\S\ is also used for one-time programming. See the PV One- Time Programming (See Datasheet)", 3 VDD (power) "Supply Voltage. Bypass with a 0.1uF capacitor to GND.", 4 GND (power) "Ground", 5 PV "One-Time Programming Voltage. Connect PV to an 11V supply at the time the device is programmed/locked, and bypass with a 22uF capacitor to GND. For normal operation, connect to GND or leave floating.", 6 U/~{D} (in) "Up/Down Control Input. When C\S\ is low, a low-to-high transition at U/D\ increments or decrements the wiper position. See the Digital Interface Operation section.", 7 L "Resistor Low Terminal", 8 H "Resistor High Terminal", 9 EP (power) "Exposed Pad (TDFN Only). Internally connected to GND. Connect to a large ground plane to maximize thermal dissipation."

## MAX5527GTA+T
designator U?
100k Digital Potentiometer with Up/Down Control Interface, Non-Volatile OTP, Linear Taper, 64 Steps, -40 to 105 degC, 8-pin TDFN-EP (T833+2), Pb-Free, Tape and Reel; PartNumber: MAX5527GTA+T; DatasheetVersion: Rev. 1; PackageVersion: Rev. J, 08/2009; PackageReference: T833+2; PackageDescription: 8-Pin Plastic Very Very Thin Dual Flatpack No Leads, Exposed Pad (T833+2); Supplier 1: Digi-Key; Supplier Part Number 1: MAX5527GTA+T-ND; Supplier 2: Mouser; Supplier Part Number 2: 700-MAX5527GTAT; Control Interface: Up/Down; Features: One Time Programmable; Mounting Technology: Surface Mount; Code_JEDEC: MO229; ComponentLink1Description: Manufacturer URL; ComponentLink1URL: http://www.maximintegrated.com/; ComponentLink2Description: Datasheet; ComponentLink2URL: http://datasheets.maximintegrated.com/en/ds/MAX5527-MAX5529.pdf; ComponentLink3Description: Package Specification; ComponentLink3URL: http://pdfserv.maximintegrated.com/package_dwgs/21-0137.PDF
footprint MAXM-T833+2_V (SON, 8-Leads, Body 3x3 mm, Pitch 0.65mm, Thermal Pad 2.3x1.5mm)
pins: 1 W "Wiper Connection", 2 ~{CS} (in) "Chip-Select Input. A high-to-low C\S\ transition determines the increment/decrement mode. Increment if U/D\ is high, or decrement if U/D\ is low. C\S\ is also used for one-time programming. See the PV One- Time Programming (See Datasheet)", 3 VDD (power) "Supply Voltage. Bypass with a 0.1uF capacitor to GND.", 4 GND (power) "Ground", 5 PV "One-Time Programming Voltage. Connect PV to an 11V supply at the time the device is programmed/locked, and bypass with a 22uF capacitor to GND. For normal operation, connect to GND or leave floating.", 6 U/~{D} (in) "Up/Down Control Input. When C\S\ is low, a low-to-high transition at U/D\ increments or decrements the wiper position. See the Digital Interface Operation section.", 7 L "Resistor Low Terminal", 8 H "Resistor High Terminal", 9 EP (power) "Exposed Pad (TDFN Only). Internally connected to GND. Connect to a large ground plane to maximize thermal dissipation."

## MAX5527GTA-T
designator U?
100k Digital Potentiometer with Up/Down Control Interface, Non-Volatile OTP, Linear Taper, 64 Steps, -40 to 105 degC, 8-pin TDFN-EP (T833-2), Tape and Reel; PartNumber: MAX5527GTA-T; DatasheetVersion: Rev. 1; PackageVersion: Rev. J, 08/2009; PackageReference: T833-2; PackageDescription: 8-Pin Plastic Very Very Thin Dual Flatpack No Leads, Exposed Pad, Body 3 x 3 mm, Pitch 0.65 mm; Supplier 1: Mouser; Supplier Part Number 1: N/A; Control Interface: Up/Down; Features: One Time Programmable; Mounting Technology: Surface Mount; Code_JEDEC: MO229; ComponentLink1Description: Manufacturer URL; ComponentLink1URL: http://www.maximintegrated.com/; ComponentLink2Description: Datasheet; ComponentLink2URL: http://datasheets.maximintegrated.com/en/ds/MAX5527-MAX5529.pdf; ComponentLink3Description: Package Specification; ComponentLink3URL: http://pdfserv.maximintegrated.com/package_dwgs/21-0137.PDF
footprint MAXM-T833-2_V (SON, 8-Leads, Body 3x3mm, Pitch 0.65mm, Thermal Pad 2.3x1.5mm, Recommended)
pins: 1 W "Wiper Connection", 2 ~{CS} (in) "Chip-Select Input. A high-to-low C\S\ transition determines the increment/decrement mode. Increment if U/D\ is high, or decrement if U/D\ is low. C\S\ is also used for one-time programming. See the PV One- Time Programming (See Datasheet)", 3 VDD (power) "Supply Voltage. Bypass with a 0.1uF capacitor to GND.", 4 GND (power) "Ground", 5 PV "One-Time Programming Voltage. Connect PV to an 11V supply at the time the device is programmed/locked, and bypass with a 22uF capacitor to GND. For normal operation, connect to GND or leave floating.", 6 U/~{D} (in) "Up/Down Control Input. When C\S\ is low, a low-to-high transition at U/D\ increments or decrements the wiper position. See the Digital Interface Operation section.", 7 L "Resistor Low Terminal", 8 H "Resistor High Terminal", 9 EP (power) "Exposed Pad (TDFN Only). Internally connected to GND. Connect to a large ground plane to maximize thermal dissipation."

## MAX5527GUA
designator U?
100k Digital Potentiometer with Up/Down Control Interface, Non-Volatile OTP, Linear Taper, 64 Steps, -40 to 105 degC, 8-pin uMAX (U8-1); PartNumber: MAX5527GUA; DatasheetVersion: Rev. 1; PackageVersion: Rev. L, 08/2009; PackageReference: U8-1; PackageDescription: 8-Pin Micro-MAX, Thin Shrink Small-Outline (U8-1), Body 3 x 3 mm, Pitch 0.65mm; Supplier 1: Mouser; Supplier Part Number 1: N/A; Control Interface: Up/Down; Features: One Time Programmable; Mounting Technology: Surface Mount; Code_JEDEC: MO-187; ComponentLink1Description: Manufacturer URL; ComponentLink1URL: http://www.maximintegrated.com/; ComponentLink2Description: Datasheet; ComponentLink2URL: http://datasheets.maximintegrated.com/en/ds/MAX5527-MAX5529.pdf; ComponentLink3Description: Package Specification; ComponentLink3URL: http://pdfserv.maximintegrated.com/package_dwgs/21-0036.PDF
footprint MAXM-U8-1_N (SOP, 8-Leads, Body 3x3mm, Pitch 0.65mm, IPC Medium Density)
footprint MAXM-U8-1_L (SOP, 8-Leads, Body 3x3mm, Pitch 0.65mm, IPC High Density)
footprint MAXM-U8-1_M (SOP, 8-Leads, Body 3x3mm, Pitch 0.65mm, IPC Low Density)
pins: 1 W "Wiper Connection", 2 ~{CS} (in) "Chip-Select Input. A high-to-low C\S\ transition determines the increment/decrement mode. Increment if U/D\ is high, or decrement if U/D\ is low. C\S\ is also used for one-time programming. See the PV One-Time Programming (See Datasheet)", 3 VDD (power) "Supply Voltage. Bypass with a 0.1uF capacitor to GND.", 4 GND (power) "Ground", 5 PV "One-Time Programming Voltage. Connect PV to an 11V supply at the time the device is programmed/locked, and bypass with a 22uF capacitor to GND. For normal operation, connect to GND or leave floating.", 6 U/~{D} (in) "Up/Down Control Input. When C\S\ is low, a low-to-high transition at U/D\ increments or decrements the wiper position. See the Digital Interface Operation section.", 7 L "Resistor Low Terminal", 8 H "Resistor High Terminal"

## MAX5527GUA+
designator U?
100k Digital Potentiometer with Up/Down Control Interface, Non-Volatile OTP, Linear Taper, 64 Steps, -40 to 105 degC, 8-pin uMAX (U8+1), Pb-Free; PartNumber: MAX5527GUA+; DatasheetVersion: Rev. 1; PackageVersion: Rev. L, 08/2009; PackageReference: U8+1; PackageDescription: 8-Pin Micro-MAX, Thin Shrink Small-Outline (U8+1), Body 3 x 3 mm, Pitch 0.65 mm; Supplier 1: Digi-Key; Supplier Part Number 1: MAX5527GUA+-ND; Supplier 2: Mouser; Supplier Part Number 2: 700-MAX5527GUA; Control Interface: Up/Down; Features: One Time Programmable; Mounting Technology: Surface Mount; Code_JEDEC: MO-187; ComponentLink1Description: Manufacturer URL; ComponentLink1URL: http://www.maximintegrated.com/; ComponentLink2Description: Datasheet; ComponentLink2URL: http://datasheets.maximintegrated.com/en/ds/MAX5527-MAX5529.pdf; ComponentLink3Description: Package Specification; ComponentLink3URL: http://pdfserv.maximintegrated.com/package_dwgs/21-0036.PDF
footprint MAXM-U8+1_N (SOP, 8-Leads, Body 3x3mm, Pitch 0.65mm, IPC Medium Density)
footprint MAXM-U8+1_L (SOP, 8-Leads, Body 3x3mm, Pitch 0.65mm, IPC High Density)
footprint MAXM-U8+1_M (SOP, 8-Leads, Body 3x3mm, Pitch 0.65mm, IPC Low Density)
pins: 1 W "Wiper Connection", 2 ~{CS} (in) "Chip-Select Input. A high-to-low C\S\ transition determines the increment/decrement mode. Increment if U/D\ is high, or decrement if U/D\ is low. C\S\ is also used for one-time programming. See the PV One-Time Programming (See Datasheet)", 3 VDD (power) "Supply Voltage. Bypass with a 0.1uF capacitor to GND.", 4 GND (power) "Ground", 5 PV "One-Time Programming Voltage. Connect PV to an 11V supply at the time the device is programmed/locked, and bypass with a 22uF capacitor to GND. For normal operation, connect to GND or leave floating.", 6 U/~{D} (in) "Up/Down Control Input. When C\S\ is low, a low-to-high transition at U/D\ increments or decrements the wiper position. See the Digital Interface Operation section.", 7 L "Resistor Low Terminal", 8 H "Resistor High Terminal"

## MAX5527GUA+T
designator U?
100k Digital Potentiometer with Up/Down Control Interface, Non-Volatile OTP, Linear Taper, 64 Steps, -40 to 105 degC, 8-pin uMAX (U8+1), Pb-Free, Tape and Reel; PartNumber: MAX5527GUA+T; DatasheetVersion: Rev. 1; PackageVersion: Rev. L, 08/2009; PackageReference: U8+1; PackageDescription: 8-Pin Micro-MAX, Thin Shrink Small-Outline (U8+1), Body 3 x 3 mm, Pitch 0.65 mm; Supplier 1: Digi-Key; Supplier Part Number 1: MAX5527GUA+T-ND; Supplier 2: Mouser; Supplier Part Number 2: 700-MAX5527GUAT; Control Interface: Up/Down; Features: One Time Programmable; Mounting Technology: Surface Mount; Code_JEDEC: MO-187; ComponentLink1Description: Manufacturer URL; ComponentLink1URL: http://www.maximintegrated.com/; ComponentLink2Description: Datasheet; ComponentLink2URL: http://datasheets.maximintegrated.com/en/ds/MAX5527-MAX5529.pdf; ComponentLink3Description: Package Specification; ComponentLink3URL: http://pdfserv.maximintegrated.com/package_dwgs/21-0036.PDF
footprint MAXM-U8+1_N (SOP, 8-Leads, Body 3x3mm, Pitch 0.65mm, IPC Medium Density)
footprint MAXM-U8+1_L (SOP, 8-Leads, Body 3x3mm, Pitch 0.65mm, IPC High Density)
footprint MAXM-U8+1_M (SOP, 8-Leads, Body 3x3mm, Pitch 0.65mm, IPC Low Density)
pins: 1 W "Wiper Connection", 2 ~{CS} (in) "Chip-Select Input. A high-to-low C\S\ transition determines the increment/decrement mode. Increment if U/D\ is high, or decrement if U/D\ is low. C\S\ is also used for one-time programming. See the PV One-Time Programming (See Datasheet)", 3 VDD (power) "Supply Voltage. Bypass with a 0.1uF capacitor to GND.", 4 GND (power) "Ground", 5 PV "One-Time Programming Voltage. Connect PV to an 11V supply at the time the device is programmed/locked, and bypass with a 22uF capacitor to GND. For normal operation, connect to GND or leave floating.", 6 U/~{D} (in) "Up/Down Control Input. When C\S\ is low, a low-to-high transition at U/D\ increments or decrements the wiper position. See the Digital Interface Operation section.", 7 L "Resistor Low Terminal", 8 H "Resistor High Terminal"

## MAX5527GUA-T
designator U?
100k Digital Potentiometer with Up/Down Control Interface, Non-Volatile OTP, Linear Taper, 64 Steps, -40 to 105 degC, 8-pin uMAX (U8-1), Tape and Reel; PartNumber: MAX5527GUA-T; DatasheetVersion: Rev. 1; PackageVersion: Rev. L, 08/2009; PackageReference: U8-1; PackageDescription: 8-Pin Micro-MAX, Thin Shrink Small-Outline (U8-1), Body 3 x 3 mm, Pitch 0.65mm; Supplier 1: Mouser; Supplier Part Number 1: N/A; Control Interface: Up/Down; Features: One Time Programmable; Mounting Technology: Surface Mount; Code_JEDEC: MO-187; ComponentLink1Description: Manufacturer URL; ComponentLink1URL: http://www.maximintegrated.com/; ComponentLink2Description: Datasheet; ComponentLink2URL: http://datasheets.maximintegrated.com/en/ds/MAX5527-MAX5529.pdf; ComponentLink3Description: Package Specification; ComponentLink3URL: http://pdfserv.maximintegrated.com/package_dwgs/21-0036.PDF
footprint MAXM-U8-1_N (SOP, 8-Leads, Body 3x3mm, Pitch 0.65mm, IPC Medium Density)
footprint MAXM-U8-1_L (SOP, 8-Leads, Body 3x3mm, Pitch 0.65mm, IPC High Density)
footprint MAXM-U8-1_M (SOP, 8-Leads, Body 3x3mm, Pitch 0.65mm, IPC Low Density)
pins: 1 W "Wiper Connection", 2 ~{CS} (in) "Chip-Select Input. A high-to-low C\S\ transition determines the increment/decrement mode. Increment if U/D\ is high, or decrement if U/D\ is low. C\S\ is also used for one-time programming. See the PV One-Time Programming (See Datasheet)", 3 VDD (power) "Supply Voltage. Bypass with a 0.1uF capacitor to GND.", 4 GND (power) "Ground", 5 PV "One-Time Programming Voltage. Connect PV to an 11V supply at the time the device is programmed/locked, and bypass with a 22uF capacitor to GND. For normal operation, connect to GND or leave floating.", 6 U/~{D} (in) "Up/Down Control Input. When C\S\ is low, a low-to-high transition at U/D\ increments or decrements the wiper position. See the Digital Interface Operation section.", 7 L "Resistor Low Terminal", 8 H "Resistor High Terminal"